# EAGLE library part 691242700006 (library Eagle_WR-TBL Rising Cage Clamp (rev20a))
WR-TBL Serie 2427 - 5.00 mm Vertical Entry w. Rising Cage Clamp KIND PROPERTIES Pitch 5 mm MATERIAL PROPERTIES Insulator Material PA6/66 Insulator Flammability Rating UL94 V-0 Insulator Color Green Contact Material Copper Alloy Contact Plating Nickel over Tin Terminal Screw Material Steel Terminal Screw Plating Zinc Wire Guard Material Copper Alloy GENERAL INFORMATION Operating Temperature -30 up to +120 °C Compliance Lead free / RoHS ELECTRICAL PROPERTIES IR UL 14 A IR VDE 24 A Working Voltage [UL] 300 V (AC) Working Voltage [VDE] 250 V (AC) Withstanding Voltage [UL] 1600 V (AC) Withstanding Voltage [VDE] 2000 V (AC) Contact Resistance 20 mΩ Contact Resistance [UL] 20 mΩ Contact Resistance [VDE] 20 mΩ MECHANICAL PROPERTIES Wire Strip Length 6 (mm) Screw M3 CERTIFICATION UL Approval E150931 CAT. N°: CLA (4); E150931 CAT. N°: CLA (4)4; E150931 CAT.N°: CLA (4) VDE Approval 40021356 VDE Approval 40021365 TYPE: CLA PACKAGING PROPERTIES Packaging Box <https://www.we-online.com/catalog/media/o79416v209%20Family_WR-TBL_6912427000xx_6912425000xx.jpg> Details see: https://www.we-online.com/catalog/en/TBL_5_00_2427_VERTICAL_ENTRY_W_RISING_CAGE_CLAMP_6912427000XX/ Updated by Ella Wu 2019-11-25 2019(C) Wurth Elektronik
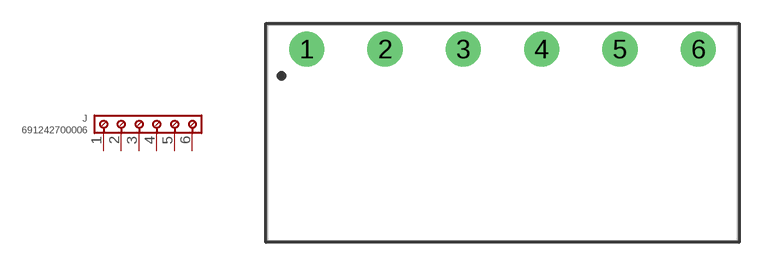
[diagram p58: symbol with the pads of 691242700006; footprint 691242700006]

Designator prefix J

## 691242700006 (IR-UL: 14A; IR-VDE: 24A; PART-NUMBER: 691242700006; PINS: 6; PITCH: 5mm; TYPE: Vertical; WIRE: 30 to 12 (AWG) 0.0509 to 3.31 (mm²); WORKING-VOLTAGE-UL: 300V (AC); WORKING-VOLTAGE-VDE: 250V (AC))  [691242700006]
1  1  pas
2  2  pas
3  3  pas
4  4  pas
5  5  pas
6  6  pas

## Footprint 691242700006 (pad centres in mm)
WR-TBL Serie 2427 - 5.00 mm Vertical Entry w. Rising Cage Clamp Max Height =9.8mm , Pitch 5mm , 6 Pins
drill 1.5: 1 -12.5,0; 2 -7.5,0; 3 -2.5,0; 4 2.5,0; 5 7.5,0; 6 12.5,0